# EAGLE library part FOOTPRINT-6-PIN (library p.peter-doc)
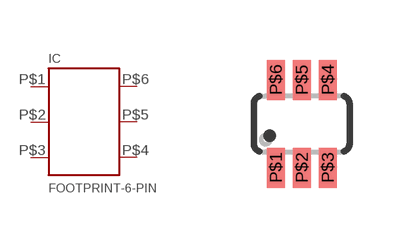
[diagram p0: symbol with the pads of SC-70/6; footprint SC-70/6]

Designator prefix IC

## FOOTPRINT-6-PINSC70  [SC-70/6]
P$1  1
P$2  2
P$3  3
P$4  4
P$5  5
P$6  6

## Footprint SC-70/6 (pad centres in mm)
smd 0.45 x 1: P$1 -0.65,-1.1; P$2 0,-1.1; P$3 0.65,-1.1; P$4 0.65,1.1; P$5 0,1.1; P$6 -0.65,1.1